# Altium schematic symbol library 模拟器件.SchLib: 35 symbols
Pins are listed as number, name and electrical type; pins without a type are passive.

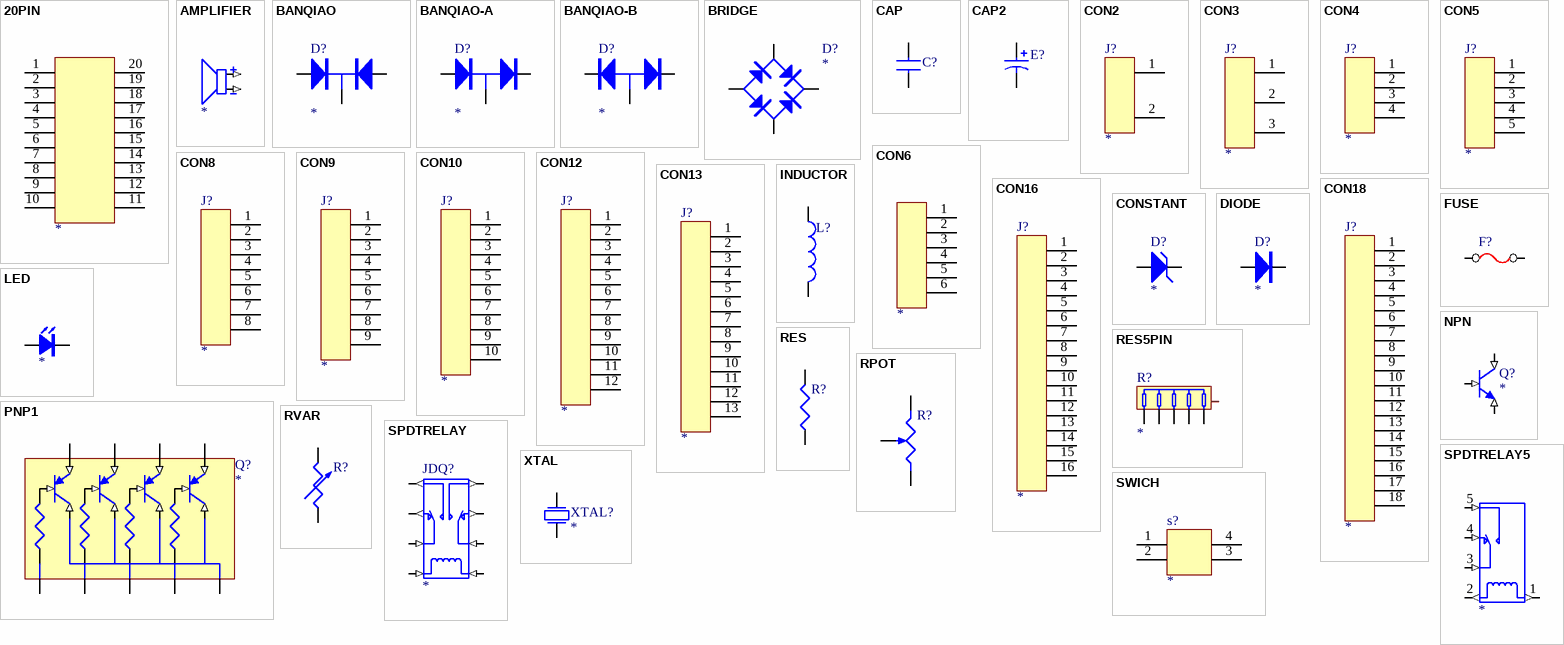
[diagram p0: symbols 20PIN to XTAL]

## 20PIN
designator ?
pins: 1, 2, 3, 4, 5, 6, 7, 8, 9, 10, 11, 12, 13, 14, 15, 16, 17, 18, 19, 20

## AMPLIFIER
designator ?
pins: 1 IN+ (in), 2 IN- (in)

## BANQIAO
designator D?
DIODE BRIDGE
pins: 1 A1, 2 K, 3 A2

## BANQIAO-A
designator D?
DIODE BRIDGE
pins: 1 A, 2 C, 3 K

## BANQIAO-B
designator D?
DIODE BRIDGE
pins: 1 K1, 2 A, 3 K2

## BRIDGE
designator D?
DIODE BRIDGE
pins: 1 AC, 2 V+, 3 AC, 4 V-

## CAP
designator C?  (value not drawn)
Capacitor
simulation model CAP
pins: 1, 2
1 alternate drawing of the same symbol

## CAP2
designator E?  (value not drawn)
Bi-Polar Capacitor
simulation model CAP
pins: 1, 2
1 alternate drawing of the same symbol

## CON2
designator J?
SOCKET
pins: 1, 2

## CON3
designator J?
SOCKET
pins: 1, 2, 3

## CON4
designator J?
SOCKET
pins: 1, 2, 3, 4

## CON5
designator J?
SOCKET
pins: 1, 2, 3, 4, 5

## CON6
designator ?
pins: 1, 2, 3, 4, 5, 6

## CON8
designator J?
SOCKET
pins: 1, 2, 3, 4, 5, 6, 7, 8

## CON9
designator J?
J?
footprint SIP9-D
footprint SIP9
pins: 1, 2, 3, 4, 5, 6, 7, 8, 9

## CON10
designator J?
SOCKET
pins: 1, 2, 3, 4, 5, 6, 7, 8, 9, 10

## CON12
designator J?
SOCKET
pins: 1, 2, 3, 4, 5, 6, 7, 8, 9, 10, 11, 12

## CON13
designator J?
SOCKET
pins: 1, 2, 3, 4, 5, 6, 7, 8, 9, 10, 11, 12, 13

## CON16
designator J?
SOCKET
pins: 1, 2, 3, 4, 5, 6, 7, 8, 9, 10, 11, 12, 13, 14, 15, 16

## CON18
designator J?
SOCKET
pins: 1, 2, 3, 4, 5, 6, 7, 8, 9, 10, 11, 12, 13, 14, 15, 16, 17, 18

## CONSTANT
designator D?
constant diode
pins: 1 A, 2 K

## DIODE
designator D?
DIODE
pins: 1 A, 2 K

## FUSE
designator F?  (value not drawn)
Fuse
simulation model FUSE (SUBCKT)
pins: 1, 2

## INDUCTOR
designator L?  (value not drawn)
Inductor
simulation model INDUCTOR
pins: 1, 2

## LED
designator ?
pins: 1 A, 2 K

## NPN
designator Q?
triode
pins: 1 E (in), 2 B (in), 3 C (in)

## PNP1
designator Q?
triode
pins: 1 E (in), 1 E (in), 1 E (in), 1 E (in), 1 TOP, 1 TOP, 1 TOP, 1 TOP, 1, 2 B (in), 2 B (in), 2 B (in), 2 B (in), 2 BOT, 2 BOT, 2 BOT, 2 BOT, 2, 3 C (in), 3 C (in), 3 C (in), 3 C (in), 3, 4, 5, 6, 7, 8, 9

## RES
designator R?  (value not drawn)
Resistor
footprint AXIAL0.2
footprint AXIAL0.3
simulation model RESISTOR
pins: 1 TOP, 2 BOT
1 alternate drawing of the same symbol

## RES5PIN
designator R?
Resistor
footprint SIP5
pins: 1 COM, 2 R1, 3 R2, 4 R3, 5 R4

## RPOT
designator R?  (value not drawn)
Potentiometer
simulation model POT
pins: 1 TOP, 2 TAP, 3 BOT
1 alternate drawing of the same symbol

## RVAR
designator R?  (value not drawn)
Variable Resistor
simulation model VRES
pins: 1 TOP, 2 BOT
1 alternate drawing of the same symbol

## SPDTRELAY
designator JDQ?
spdtrelay
pins: 1 JD1 (out), 2 JD2 (out), 3 JD3 (in), 4 VIN (in), 5 VIN (in), 6 JD3 (in), 7 JD2 (out), 8 JD1 (out)

## SPDTRELAY5
designator ?
pins: 1 JD1 (out), 2 JD2 (out), 3 JD3 (in), 4 VIN (in), 5 VIN (in)

## SWICH
designator s?
swich
pins: 1, 2, 3, 4

## XTAL
designator XTAL?
CRYSTAL
pins: 1 P1, 2 P2